# EAGLE library part 634108149621 (library Wurth_Connectors_WR-MJ)
WR-MJ Modular Jack SMT Vertical Plastic 8P8C Top Entry General Information Operating Temperature:-40 up to +85 °C Electrical Properties Working Voltage:120V (AC) Withstanding Voltage:1000V (AC) Contact Resistance:20mΩ RISO:500 MΩ Material Properties Insulator MateriaL:LCP Insulator Flammability Rating:UL94 V-0 Color:Black Contact Material Copper Alloy Contact Plating:Selective Gold Contact Type:Stamped Packaging Properties Packaging:Tape and Reel & Mylar <https://www.we-online.com/catalog/media/o60722v209%20Family_WR-MJ_634108149621.jpg> Details see: https://www.we-online.com/catalog/en/MJ_SMT_VERTICAL_PLASTIC_8P8C_TOP_ENTRY/ Updated by Yingchun,Shan 2020-01-07 2020(C) Würth Elektronik
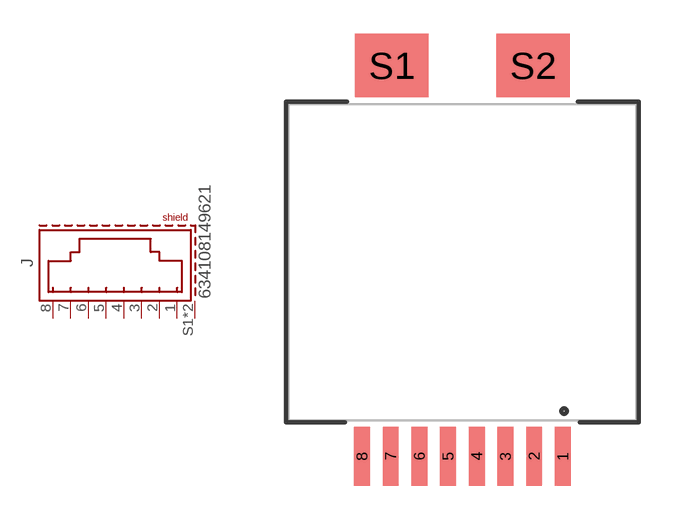
[diagram p55: symbol with the pads of 634108149621; footprint 634108149621]

Designator prefix J

## 634108149621 (DATASHEET-URL: https://www.we-online.com/redexpert/spec/634108149621?ae; MOUNT: SMT; PART-NUMBER: 634108149621; TYPE: Vertical; VALUE: 634108149621; XPXC: 8P8C)  [634108149621]
1  1  pas
2  2  pas
3  3  pas
4  4  pas
5  5  pas
6  6  pas
7  7  pas
8  8  pas
S1  SHIELD  pas
S2  SHIELD  pas

## Footprint 634108149621 (pad centres in mm)
WR-MJ Modular Jack SMT Vertical Plastic 8P8C Top Entry
smd 0.7 x 2.6: 1 4.445,-8.6; 2 3.175,-8.6; 3 1.905,-8.6; 4 0.635,-8.6; 5 -0.635,-8.6; 6 -1.905,-8.6; 7 -3.175,-8.6; 8 -4.445,-8.6
smd 3.25 x 2.8: S1 -3.125,8.7; S2 3.125,8.7